# EAGLE library part CCE10G (library adam - mechanical)
Card edge connector: 10 pin in 2 rows, IDE-style clamping wire connection, digikey: CCE10G-ND, $3.54
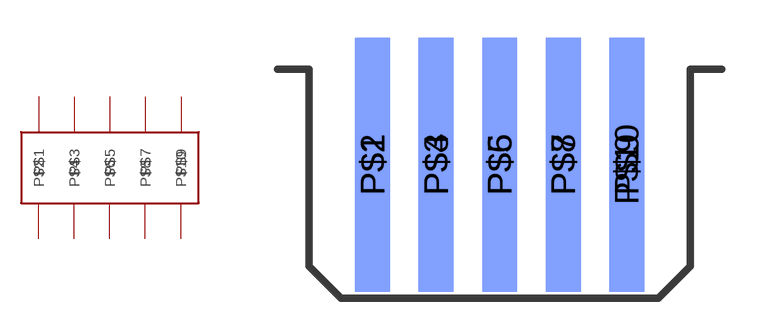
[diagram p1: symbol with the pads of CCE10G-ND; footprint CCE10G-ND]

Designator prefix -

## CCE10G  [CCE10G-ND]
P$1  P$1
P$2  P$2
P$3  P$3
P$4  P$4
P$5  P$5
P$6  P$6
P$7  P$7
P$8  P$8
P$9  P$9
P$10  P$10

## Footprint CCE10G-ND (pad centres in mm)
Card edge connector: 10 pin in 2 rows, IDE-style clamping wire connection, digikey: CCE10G-ND, $3.54
smd 1.397 x 10.16: P$1 -8.89,1.27; P$3 -6.35,1.27; P$5 -3.81,1.27; P$7 -1.27,1.27; P$9 1.27,1.27
smd 1.397 x 10.16 bottom: P$2 -8.89,1.27; P$4 -6.35,1.27; P$6 -3.81,1.27; P$8 -1.27,1.27; P$10 1.27,1.27